# EAGLE library part ATTINY25/45/85 (library ATMEL-ATTINY25-45-85)
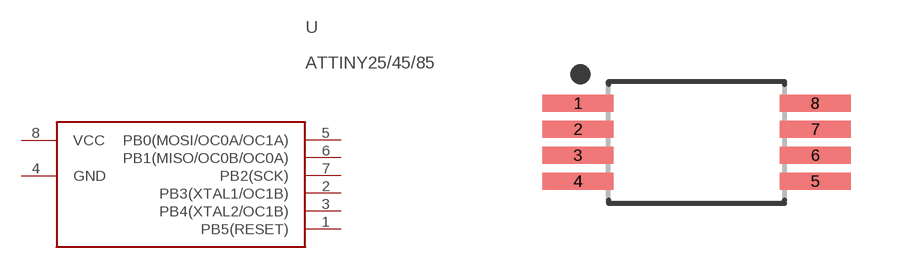
[diagram p2: symbol with the pads of TSSOP-8; footprint TSSOP-8]

Designator prefix U

## ATTINY25/45/85  [TSSOP-8]
1  PB5(RESET)
2  PB3(XTAL1/OC1B)
3  PB4(XTAL2/OC1B)
4  GND  pwr
5  PB0(MOSI/OC0A/OC1A)
6  PB1(MISO/OC0B/OC0A)
7  PB2(SCK)
8  VCC  pwr

## Footprint TSSOP-8 (pad centres in mm)
8-SOP, 0.65 mm pitch, 6.40 mm span, 3.05 X 4.40 X 1.20 mm body 8-pin SOP package with 0.65 mm pitch, 6.40 mm span with body size 3.05 X 4.40 X 1.20 mm
smd 1.78 x 0.42: 1 -2.97,0.975; 2 -2.97,0.325; 3 -2.97,-0.325; 4 -2.97,-0.975; 5 2.97,-0.975; 6 2.97,-0.325; 7 2.97,0.325; 8 2.97,0.975